# Altium footprint library 野火_EBF6ULL S1 Pro 底板_V1.0_PCB封装_AD格式.PcbLib: 74 footprints (part 3 of 5)
Each footprint in its own frame and in the unit in brackets; x right, y up, seen from the top. Pads: shape width x height; smd on the part's side, far side on the other; paste and mask are expansions set on the pad; w line width, h text height; cw(c..) or ccw(c..) is an arc to the next point about the centre after c.
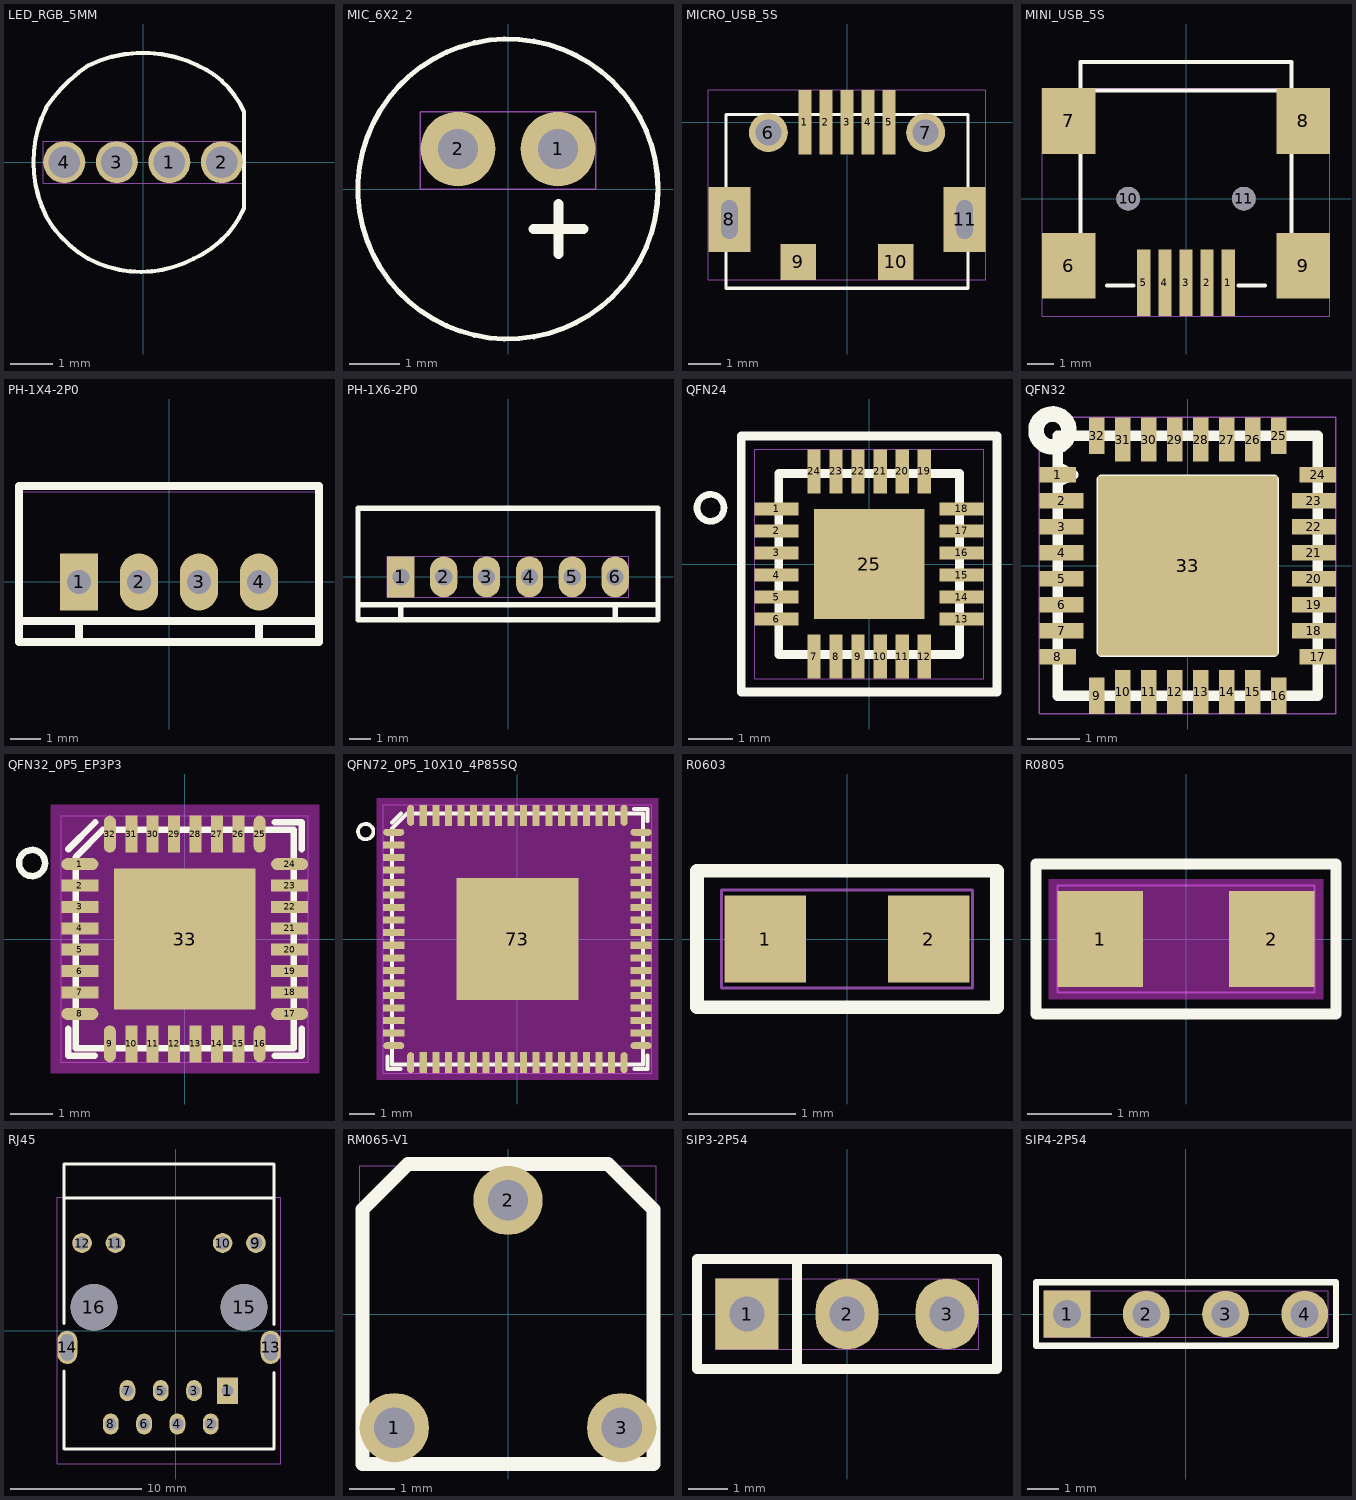
[diagram p2: the footprints below, top view; thin cyan lines are the x and y axes]

## LED_RGB_5MM [mm]
pads (4):
  round 1 hole 0.75 mask+0.05: 1(0.625,0) 2(1.875,0) 3(-0.625,0) 4(-1.875,0)
Top Overlay:
  lines w0.1: -2.301,1.297 ccw(c0.3,0) -2.299,-1.302 ; -2.299,-1.301 ccw(c0.05,0.05) -1.301,-2.299 ; -2.299,1.302 cw(c0.65,-0.65) -1.297,2.302 ; -1.3,-2.3 ccw(c-0.05,0.05) 1.2,-2.3 ; -1.299,2.301 cw(c0,-0.35) 1.303,2.298 ; 1.202,-2.299 ccw(c0.25,-0.15) 2.401,-1.098 ; 1.298,2.301 cw(c0.45,0.35) 2.399,1.202 ; 2.4,-1.1 2.4,1.2
Top Assembly:
  text "D11" at -1.182,-0.635 h1.27
Mechanical 20:
  lines w0.025: -2.375,-0.5 -2.375,0.5 2.375,0.5 2.375,-0.5 -2.375,-0.5

## MIC_6X2_2 [mil]
pads (2):
  round 59.06 hole 31.5 mask+2: 1(39.37,31.5) 2(-39.37,31.5)
Top Overlay:
  circle w4: c0,0 r118.11
  lines w7.87: 19.92,-31.61 59.29,-31.61 ; 39.61,-51.3 39.61,-11.93
Top Assembly:
  text "P1" at 28.21,25 h50
Mechanical 20:
  lines w1: -68.9,0 -68.9,61.02 68.9,61.02 68.9,0 -68.9,0

## MICRO_USB_5S [mm]
pads (11):
  rect 0.4x2 smd mask+0.05: 1(-1.3,0) 2(-0.65,0) 3(0,0) 4(0.65,0) 5(1.3,0)
  round 1.2 hole 0.8 mask+0.05: 6(-2.425,-0.32) 7(2.425,-0.32)
  rect 1.3x2 hole 0.5 slot 1.2 at 90 deg mask+0.05: 8(-3.625,-3) 11(3.625,-3)
  rect 1.1x1.1 smd mask+0.05: 9(-1.5,-4.31) 10(1.5,-4.31)
Top Overlay:
  lines w0.1: -3.73,-5.12 -3.73,0.235 ; -3.73,-5.12 3.73,-5.12 ; -3.73,-5.12 -3.73,0.235 ; -3.73,-5.12 3.73,-5.12 ; -3.73,0.235 3.73,0.235 ; -3.73,0.235 3.73,0.235 ; 3.73,-5.12 3.73,0.235 ; 3.73,-5.12 3.73,0.235
Top Assembly:
  text "J34" at -1.484,-0.635 h1.27
Mechanical 20:
  lines w0.025: -4.275,-4.86 -4.275,1 4.275,1 4.275,-4.86 -4.275,-4.86

## MINI_USB_5S [mil]
pads (11):
  rect 20x100 smd mask+2.5: 1(62.99,-125.98) 2(31.5,-125.98) 3(0,-125.98) 4(-31.5,-125.98) 5(-62.99,-125.98)
  rect 80x98.43 smd mask+2.5: 6(-175.2,-100.39) 7(-175.2,116.14) 8(175.2,116.14) 9(175.2,-100.39)
  round 35.43 hole 35.43 unplated mask+1.97: 10(-86.61,0) 11(86.61,0)
Top Overlay:
  lines w6: -157.48,-59.06 -157.48,74.8 ; -157.48,157.48 -157.48,204.72 157.48,204.72 157.48,157.48 ; -157.48,161.42 157.48,161.42 ; -118.11,-129.92 -78.74,-129.92 ; 78.74,-129.92 118.11,-129.92 ; 157.48,-59.06 157.48,74.8
Top Assembly:
  text "J9" at -33.81,-25 h50
Mechanical 20:
  lines w1: -215.2,-175.98 -215.2,165.35 215.2,165.35 215.2,-175.98 -215.2,-175.98

## PH-1X4-2P0 [mil]
pads (4):
  rect 50x75 hole 31.5 mask+2.5: 1(-118.11,0)
  oval 50x75 hole 31.5 mask+2.5: 2(-39.37,0) 3(39.37,0) 4(118.11,0)
Top Overlay:
  lines w10: -196.85,-51.18 196.85,-51.18 ; -118.11,-78.74 -118.11,-51.18 ; 118.11,-78.74 118.11,-51.18 ; -196.85,-78.74 196.85,-78.74 196.85,125.98 -196.85,125.98 -196.85,-78.74
Top Assembly:
  text "J33" at 57.25,25 h50
Mechanical 20:
  lines w1: -196.85,-78.74 196.85,-78.74 196.85,118.11 -196.85,118.11 -196.85,-78.74

## PH-1X6-2P0 [mil]
pads (6):
  rect 50x75 hole 31.5 mask+2.5: 1(-196.85,0)
  oval 50x75 hole 31.5 mask+2.5: 2(-118.11,0) 3(-39.37,0) 4(39.37,0) 5(118.11,0) 6(196.85,0)
Top Overlay:
  lines w10: -275.59,-51.18 275.59,-51.18 ; -196.85,-78.74 -196.85,-51.18 ; 196.85,-78.74 196.85,-51.18 ; -275.59,-78.74 -275.59,125.98 275.59,125.98 275.59,-78.74 -275.59,-78.74
Top Assembly:
  text "J39" at 56.06,25 h50
Mechanical 20:
  lines w1: -221.85,-37.5 -221.85,37.5 221.85,37.5 221.85,-37.5 -221.85,-37.5

## QFN24 [mm]
pads (25):
  rect 1x0.3 smd mask+0.05: 1(-2.1,1.25) 2(-2.1,0.75) 3(-2.1,0.25) 4(-2.1,-0.25) 5(-2.1,-0.75) 6(-2.1,-1.25) 13(2.1,-1.25) 14(2.1,-0.75) 15(2.1,-0.25) 16(2.1,0.25) 17(2.1,0.75) 18(2.1,1.25)
  rect 0.3x1 smd mask+0.05: 7(-1.25,-2.1) 8(-0.75,-2.1) 9(-0.25,-2.1) 10(0.25,-2.1) 11(0.75,-2.1) 12(1.25,-2.1) 19(1.25,2.1) 20(0.75,2.1) 21(0.25,2.1) 22(-0.25,2.1) 23(-0.75,2.1) 24(-1.25,2.1)
  rect 2.5x2.5 smd mask+0.05: 25(0,0)
Top Overlay:
  circle w0.152: c-3.599,1.275 r0.305
  lines w0.2: -2.9,-2.9 2.9,-2.9 2.9,2.9 -2.9,2.9 -2.9,-2.9 ; -2.05,-2.05 2.05,-2.05 2.05,2.05 -2.05,2.05 -2.05,-2.05
Top Assembly:
  text "U14" at 1.518,0.635 h1.27
Mechanical 20:
  lines w0.025: -2.6,-2.6 -2.6,2.6 2.6,2.6 2.6,-2.6 -2.6,-2.6

## QFN32 [mil]
pads (33):
  rect 27.56x11.81 smd mask+1.97: 1(-98.43,68.9) 8(-98.43,-68.9) 17(98.43,-68.9) 24(98.43,68.9)
  rect 33.46x11.81 smd mask+1.97: 2(-95.47,49.21) 3(-95.47,29.53) 4(-95.47,9.84) 5(-95.47,-9.84) 6(-95.47,-29.53) 7(-95.47,-49.21) 18(95.47,-49.21) 19(95.47,-29.53) 20(95.47,-9.84) 21(95.47,9.84) 22(95.47,29.53) 23(95.47,49.21)
  rect 11.81x27.56 smd mask+1.97: 9(-68.9,-98.43) 16(68.9,-98.43) 25(68.9,98.43) 32(-68.9,98.43)
  rect 11.81x33.46 smd mask+1.97: 10(-49.21,-95.47) 11(-29.53,-95.47) 12(-9.84,-95.47) 13(9.84,-95.47) 14(29.53,-95.47) 15(49.21,-95.47) 26(49.21,95.47) 27(29.53,95.47) 28(9.84,95.47) 29(-9.84,95.47) 30(-29.53,95.47) 31(-49.21,95.47)
  rect 135.83x135.83 smd mask+1.97: 33(0,0)
Top Overlay:
  circle w11.81: c-102.36,102.36 r12.45
  lines w7.87: -98.43,-98.43 98.43,-98.43 98.43,98.43 -98.43,98.43 -98.43,74.8 -86.61,68.9 -98.43,62.99 -98.43,-98.43 ; -64.96,-64.96 64.96,-64.96 64.96,64.96 -64.96,64.96 -64.96,-64.96
Top Assembly:
  text "U16" at -57.37,-25 h50
Mechanical 20:
  lines w1: -112.2,-112.2 -112.2,112.2 112.2,112.2 112.2,-112.2 -112.2,-112.2

## QFN32_0P5_EP3P3 [mil]
pads (33):
  oval 34x11 smd mask+2: 1(-96.46,68.9) 8(-96.46,-68.9) 17(96.46,-68.9) 24(96.46,68.9)
  rect 34x11 smd mask+2: 2(-96.46,49.21) 3(-96.46,29.53) 4(-96.46,9.84) 5(-96.46,-9.84) 6(-96.46,-29.53) 7(-96.46,-49.21) 18(96.46,-49.21) 19(96.46,-29.53) 20(96.46,-9.84) 21(96.46,9.84) 22(96.46,29.53) 23(96.46,49.21)
  oval 11x34 smd mask+2: 9(-68.9,-96.46) 16(68.9,-96.46) 25(68.9,96.46) 32(-68.9,96.46)
  rect 11x34 smd mask+2: 10(-49.21,-96.46) 11(-29.53,-96.46) 12(-9.84,-96.46) 13(9.84,-96.46) 14(29.53,-96.46) 15(49.21,-96.46) 26(49.21,96.46) 27(29.53,96.46) 28(9.84,96.46) 29(-9.84,96.46) 30(-29.53,96.46) 31(-49.21,96.46)
  rect 130x130 smd mask+2: 33(0,0)
Top Layer keep-out:
  region: -123.46,-123.46 -123.46,123.46 123.46,123.46 123.46,-123.46
Top Overlay:
  circle w5.98: c-140.48,69.89 r12.02
  lines w6: -107.39,-82.68 -107.39,-107.39 -82.68,-107.39 ; -107.39,82.39 -82.39,107.39 ; 82.68,-107.39 107.39,-107.39 107.39,-82.68 ; 82.68,107.39 107.39,107.39 107.39,82.68 ; -100.39,-100.39 100.39,-100.39 100.39,100.39 -75.39,100.39 -100.39,75.39 -100.39,-100.39
Top Paste:
  lines w1: -59.06,-59.06 -5.91,-59.06 -5.91,-5.91 -59.06,-5.91 -59.06,-59.06 ; -59.06,5.91 -59.06,59.06 -5.91,59.06 -5.91,5.91 -59.06,5.91 ; 5.91,-59.06 5.91,-5.91 59.06,-5.91 59.06,-59.06 5.91,-59.06 ; 5.91,5.91 5.91,59.06 59.06,59.06 59.06,5.91 5.91,5.91
Top Assembly:
  text "U13" at 58.56,25 h50
Mechanical 20:
  lines w1: -113.46,-113.46 -113.46,113.46 113.46,113.46 113.46,-113.46 -113.46,-113.46

## QFN72_0P5_10X10_4P85SQ [mil]
pads (73):
  oval 33x11 smd mask+2: 1(-193.9,167.32) 18(-193.9,-167.24) 37(193.9,-167.24) 54(193.9,167.32)
  rect 33x11 smd mask+2: 2(-193.9,147.64) 3(-193.9,127.96) 4(-193.9,108.28) 5(-193.9,88.6) 6(-193.9,68.92) 7(-193.9,49.24) 8(-193.9,29.56) 9(-193.9,9.88) 10(-193.9,-9.8) 11(-193.9,-29.48) 12(-193.9,-49.16) 13(-193.9,-68.84) 14(-193.9,-88.52) 15(-193.9,-108.2) 16(-193.9,-127.88) 17(-193.9,-147.56) 38(193.9,-147.56) 39(193.9,-127.88) 40(193.9,-108.2) 41(193.9,-88.52) 42(193.9,-68.84) 43(193.9,-49.16) 44(193.9,-29.48) 45(193.9,-9.8) 46(193.9,9.88) 47(193.9,29.56) 48(193.9,49.24) 49(193.9,68.92) 50(193.9,88.6) 51(193.9,108.28) 52(193.9,127.96) 53(193.9,147.64)
  oval 11x33 smd mask+2: 19(-167.32,-193.9) 36(167.24,-193.9) 55(167.24,193.9) 72(-167.32,193.9)
  rect 11x33 smd mask+2: 20(-147.64,-193.9) 21(-127.96,-193.9) 22(-108.28,-193.9) 23(-88.6,-193.9) 24(-68.92,-193.9) 25(-49.24,-193.9) 26(-29.56,-193.9) 27(-9.88,-193.9) 28(9.8,-193.9) 29(29.48,-193.9) 30(49.16,-193.9) 31(68.84,-193.9) 32(88.52,-193.9) 33(108.2,-193.9) 34(127.88,-193.9) 35(147.56,-193.9) 56(147.56,193.9) 57(127.88,193.9) 58(108.2,193.9) 59(88.52,193.9) 60(68.84,193.9) 61(49.16,193.9) 62(29.48,193.9) 63(9.8,193.9) 64(-9.88,193.9) 65(-29.56,193.9) 66(-49.24,193.9) 67(-68.92,193.9) 68(-88.6,193.9) 69(-108.28,193.9) 70(-127.96,193.9) 71(-147.64,193.9)
  rect 191x191 smd mask+2: 73(0,0)
Top Layer keep-out:
  region: -220.4,-220.4 -220.4,220.4 220.4,220.4 220.4,-220.4
Top Overlay:
  circle w5.98: c-237.92,168.31 r12.02
  lines w6: -203.85,-183.74 -203.85,-203.85 -183.18,-203.85 ; -196.83,182.67 -182.65,196.85 ; 182.99,203.85 203.85,203.85 203.85,184.94 ; 183.79,-203.85 203.85,-203.85 203.85,-182.75 ; -196.85,-196.85 196.85,-196.85 196.85,196.85 -173.23,196.85 -196.85,173.23 -196.85,-196.85
Top Paste:
  lines w1: -81.52,-81.52 -81.52,-13.98 -13.98,-13.98 -13.98,-81.52 -81.52,-81.52 ; -81.52,13.98 -81.52,81.52 -13.98,81.52 -13.98,13.98 -81.52,13.98 ; 13.98,-81.52 13.98,-13.98 81.52,-13.98 81.52,-81.52 13.98,-81.52 ; 13.98,13.98 13.98,81.52 81.52,81.52 81.52,13.98 13.98,13.98
Top Assembly:
  text "U20" at 62.49,25 h50
Mechanical 20:
  lines w1: -210.4,-210.4 210.4,-210.4 210.4,210.4 -210.4,210.4 -210.4,-210.4

## R0603 [mil]
pads (2):
  rect 30x32 smd mask+2.5: 1(-30,0) 2(30,0)
Top Overlay:
  lines w5: -55,-25 55,-25 55,25 -55,25 -55,-25
Top Assembly:
  text "R99" at 59.99,25 h50
Mechanical 20:
  lines w1: -46,-18 46,-18 46,18 -46,18 -46,-18

## R0805 [mil]
pads (2):
  rect 40x45 smd mask+4: 1(-40,0) 2(40,0)
Top Layer keep-out:
  region: -64,-28 -64,28 64,28 64,-28
Top Overlay:
  lines w5: -70,-35 70,-35 70,35 -70,35 -70,-35
Top Assembly:
  text "R216" at -78.32,-25 h50
Mechanical 20:
  lines w1: -60,-25 60,-25 60,25 -60,25 -60,-25

## RJ45 [mil]
pads (16):
  rect 62.99x78.74 / inner oval 62.99x78.74 / far side rect 62.99x78.74 hole 35.43 mask+1.97: 1(155.2,-180)
  oval 47.24x62.99 hole 35.43 mask+1.97: 2(105.2,-280) 3(55.2,-180) 4(5.2,-280) 5(-44.8,-180) 6(-94.8,-280) 7(-144.8,-180) 8(-194.8,-280)
  round 59.06 hole 40.16 mask+2.5: 9(240.83,262.91) 10(140.83,262.91) 11(-180.83,262.91) 12(-280.83,262.91)
  oval 60x100 hole 40 slot 80 at 90 deg mask+2.5: 13(285.12,-50.08) 14(-325.12,-50.08)
  round 140 hole 140 unplated mask+2.5: 15(205,70) 16(-245,70)
Top Overlay:
  lines w7.87: -334.96,397.76 294.96,397.76
  lines w10: -334.96,-120.83 -334.96,-355 294.96,-355 294.96,-125.98 ; -334.96,22.64 -334.96,499.92 294.96,499.92 294.96,18.94
Top Assembly:
  text "J25" at -57.25,-25 h50
Mechanical 20:
  lines w1: -355.12,-400 315.12,-400 315.12,400 -355.12,400 -355.12,-400

## RM065-V1 [mil]
pads (3):
  round 60 hole 35 mask+2.5: 1(-98.43,-98.43) 2(0,98.43) 3(98.43,-98.43)
Top Overlay:
  lines w12: -125.98,-129.92 -125.98,90.55 -86.61,129.92 86.61,129.92 125.98,90.55 125.98,-129.92 -125.98,-129.92
Top Assembly:
  text "RA1" at -53.09,-25 h50
Mechanical 20:
  lines w1: -128.43,-128.43 -128.43,128.43 128.43,128.43 128.43,-128.43 -128.43,-128.43

## SIP3-2P54 [mil]
pads (3):
  rect 62.99x70.87 hole 35.43 mask+1.97: 1(-100,0)
  oval 62.99x70.87 hole 35.43 mask+1.97: 2(0,0) 3(100,0)
Top Overlay:
  lines w10: -50,-55.12 -50,55.12 ; -150,-55.12 150,-55.12 150,55.12 -150,55.12 -150,-55.12
Top Assembly:
  text "J29" at -56.06,-25 h50
Mechanical 20:
  lines w1: -131.5,-35.43 -131.5,35.43 131.5,35.43 131.5,-35.43 -131.5,-35.43

## SIP4-2P54 [mil]
pads (4):
  rect 59.06x59.06 / inner round 59.06 / far side rect 59.06x59.06 hole 35.43 mask+1.97: 1(-150,0)
  round 59.06 hole 35.43 mask+1.97: 2(-50,0) 3(50,0) 4(150,0)
Top Overlay:
  lines w7.87: -189.37,-40 -189.37,40 189.57,40 189.57,-40 -189.37,-40
Top Assembly:
  text "J27" at -57.25,-25 h50
Mechanical 20:
  lines w1: -179.53,-29.53 -179.53,29.53 179.53,29.53 179.53,-29.53 -179.53,-29.53